# EAGLE library part CC2540-MINI-BLE (library cc2540)
CC2540-MINI-BLE Bluetooth 4.0 module
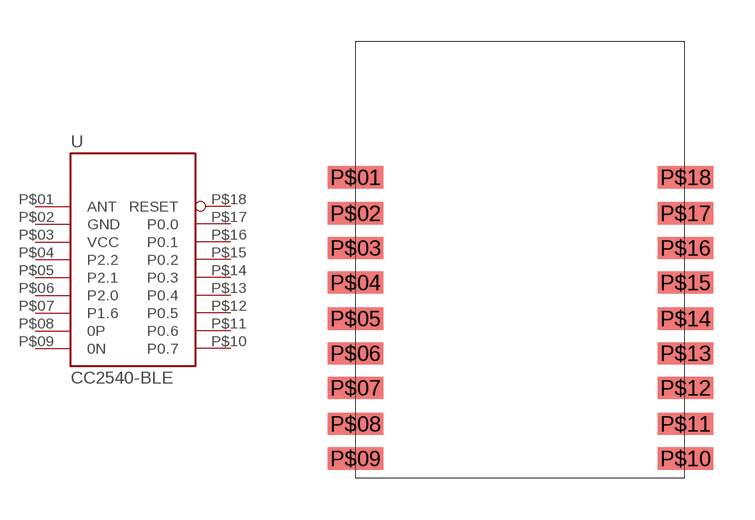
[diagram p0: symbol with the pads of CC2540-MINI-BLE; footprint CC2540-MINI-BLE]

Designator prefix -

## CC2540-MINI-BLE  [CC2540-MINI-BLE]
P$01  ANT
P$02  GND  pwr
P$03  VCC  pwr
P$04  P2.2
P$05  P2.1
P$06  P2.0
P$07  P1.6
P$08  0P
P$09  0N
P$10  P0.7
P$11  P0.6
P$12  P0.5
P$13  P0.4
P$14  P0.3
P$15  P0.2
P$16  P0.1
P$17  P0.0
P$18  RESET  in

## Footprint CC2540-MINI-BLE (pad centres in mm)
smd 2 x 0.8: P$01 0,10.85; P$02 0,9.55; P$03 0,8.3; P$04 0,7.05; P$05 0,5.75; P$06 0,4.5; P$07 0,3.25; P$08 0,1.95; P$09 0,0.7; P$10 11.9,0.7; P$11 11.9,1.95; P$12 11.9,3.25; P$13 11.9,4.5; P$14 11.9,5.75; P$15 11.9,7.05; P$16 11.9,8.3; P$17 11.9,9.55; P$18 11.9,10.85